# Altium footprint library PcbLib1.PcbLib: 26 footprints (part 1 of 2)
Each footprint in its own frame and in the unit in brackets; x right, y up, seen from the top. Pads: shape width x height; smd on the part's side, far side on the other; paste and mask are expansions set on the pad; w line width, h text height; cw(c..) or ccw(c..) is an arc to the next point about the centre after c.
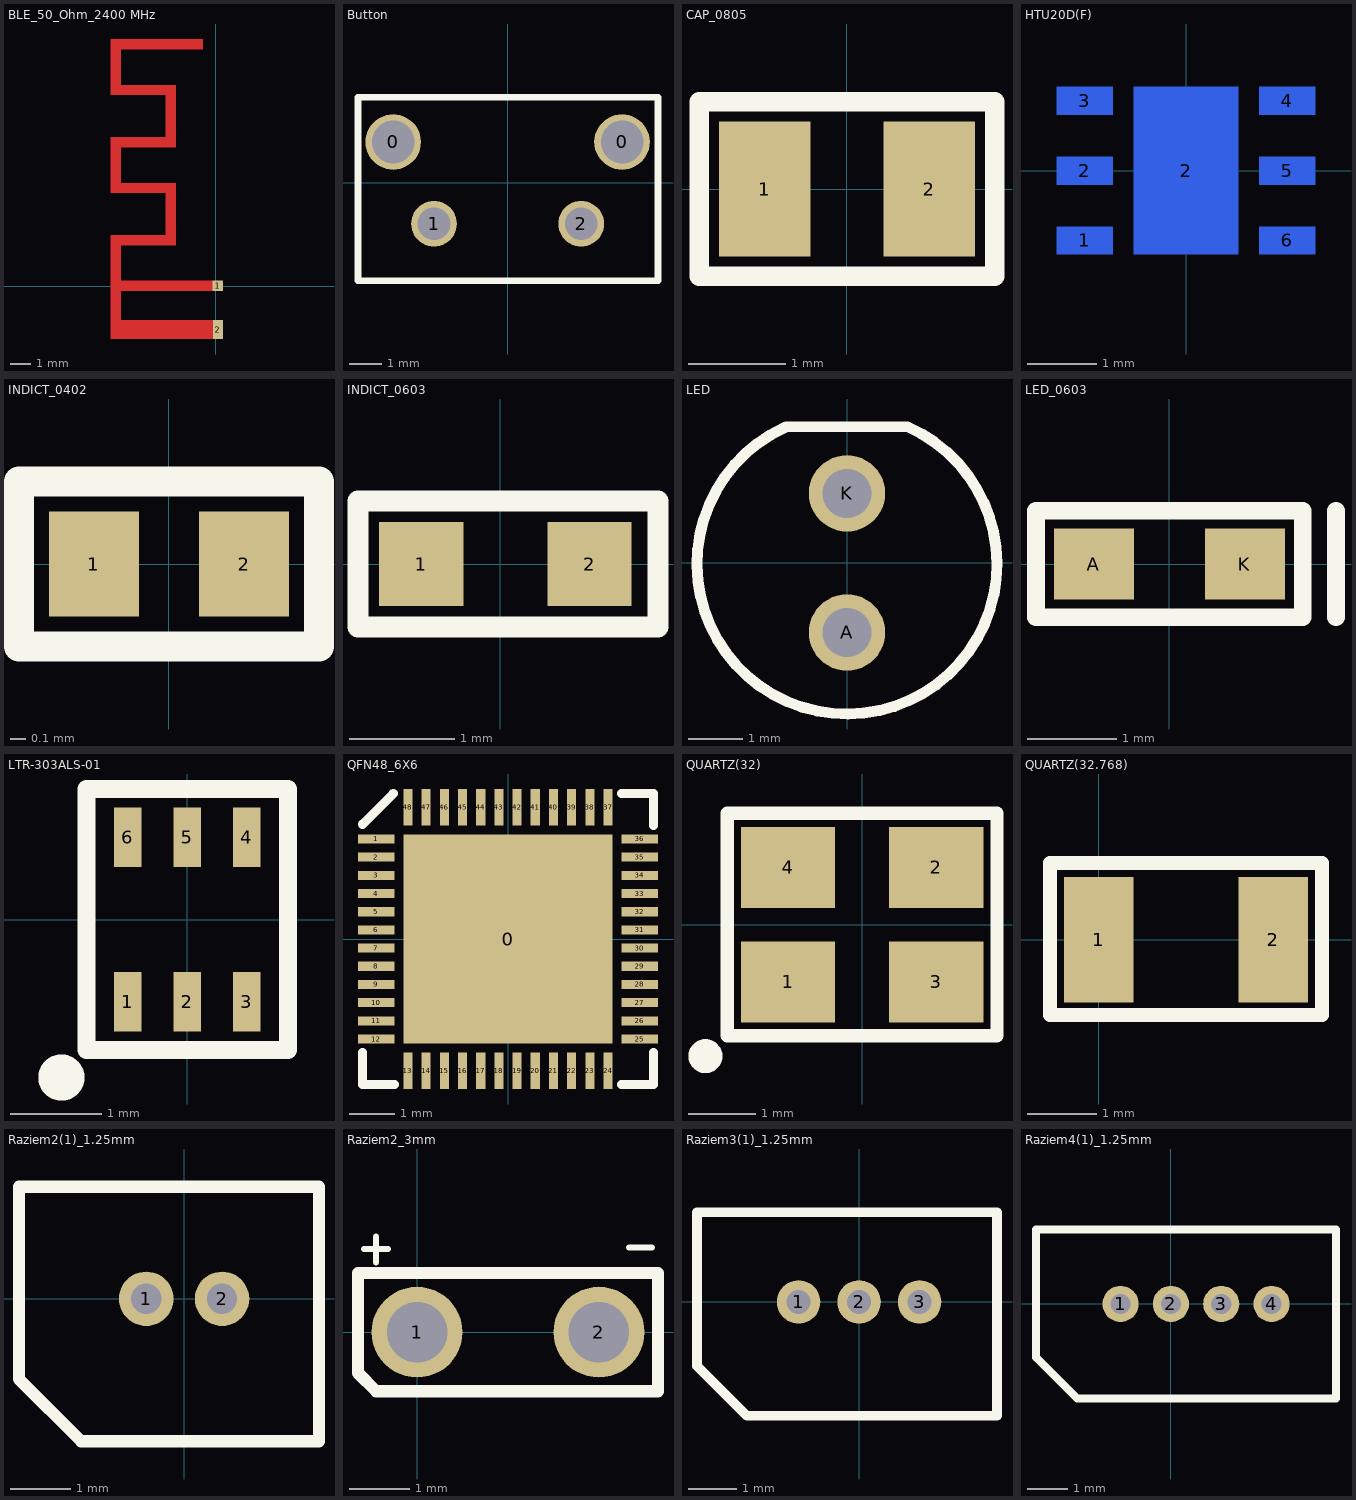
[diagram p0: the footprints below, top view; thin cyan lines are the x and y axes]

## BLE_50_Ohm_2400 MHz [mm]
height 5
pads (2):
  rect 0.5x0.5 smd: 1(0.094,0.028)
  rect 0.5x0.9 smd: 2(0.096,-2.072)
Top Layer:
  rectangle: -4.686,6.678 -1.916,7.178
  rectangle: -2.416,7.145 -1.916,9.303
  rectangle: -2.416,2.162 -1.916,4.539
  rectangle: -5.056,4.478 -4.556,7.178
  rectangle: -5.056,9.178 -4.556,11.878
  rectangle: -5.056,-2.522 -4.556,2.478
  rectangle: -4.877,11.378 -0.616,11.878
  rectangle: -4.634,9.178 -1.916,9.678
  rectangle: -4.662,4.478 -1.916,4.978
  rectangle: -5.056,1.978 -1.916,2.478
  rectangle: -4.756,-0.222 -0.152,0.278
  rectangle: -5.056,-2.522 -0.148,-1.622

## Button [mm]
height 0.55
pads (4):
  round 1.7 hole 1.3: 0(-3.5,1.25) 0(3.5,1.25)
  round 1.4 hole 1: 1(-2.25,-1.25) 2(2.25,-1.25)
Top Overlay:
  lines w0.2: -4.575,-3 -4.575,2.625 4.6,2.625 4.6,-3 -3.8,-3 -4.575,-3
3D body: height 8.1, standoff 1, extent -3.75,-2.875 3.75,2.54

## CAP_0805 [mm]
height 0.55
pads (2):
  rect 0.95x1.4 smd: 1(-0.85,0) 2(0.85,0)
Top Overlay:
  lines w0.2: -1.525,-0.9 -1.525,0.9 1.525,0.9 1.525,-0.9 -1.525,-0.9
3D body "CAPC2012.STEP": height 0.9, standoff 0, extent -1,-0.6 1,0.6

## HTU20D(F) [mm]
height 0.55
pads (7):
  rect 0.8x0.4 smd far side: 1(-1.45,-1) 2(-1.45,0) 3(-1.45,1) 4(1.45,1) 5(1.45,0) 6(1.45,-1)
  rect 1.5x2.4 smd far side: 2(0,0)
Bottom Overlay:
  circle w0.254: c-1.85,-1.8 r0.125
  lines w0.2: -2.15,-1.375 -2.15,1.4 ; 2.15,-1.375 2.15,1.4

## INDICT_0402 [mm]
height 0.55
pads (2):
  rect 0.6x0.7 smd: 1(-0.5,0) 2(0.5,0)
Top Overlay:
  lines w0.2: -1,-0.55 1,-0.55 1,0.55 -1,0.55 -1,-0.55
3D body: height 0.5, standoff 0, extent -0.5,-0.25 0.5,0.25

## INDICT_0603 [mm]
height 0.55
pads (2):
  rect 0.8x0.8 smd: 1(-0.75,0) 2(0.85,0)
Top Overlay:
  lines w0.2: -1.35,-0.6 1.5,-0.6 1.5,0.6 -1.35,0.6 -1.35,-0.6
3D body: height 0.6, standoff 0, extent -0.7,-0.35 0.775,0.325

## LED [mm]
pads (2):
  round 1.4 hole 0.9: A(0,-1.275) K(0,1.275)
Top Overlay:
  lines w0.2: -1.143,2.482 ccw(c0,-0.019) 1.11,2.497 -1.118,2.497
3D body "svetodiode.step": height 13.1, standoff -2.8, extent -2.9,-2.863 2.9,2.525

## LED_0603 [mm]
height 0.55
pads (2):
  rect 0.9x0.8 smd: A(-0.85,0) K(0.85,0)
Top Overlay:
  lines w0.2: 1.875,-0.6 1.875,0.6 ; -1.5,-0.6 -1.5,0.6 1.5,0.6 1.5,-0.6 -1.5,-0.6
3D body: height 0.4, standoff 0, extent -0.8,-0.412 0.8,0.413

## LTR-303ALS-01 [mm]
height 0.55
pads (6):
  rect 0.3x0.65 smd: 1(-0.65,-0.9) 2(0,-0.9) 3(0.65,-0.9) 4(0.65,0.9) 5(0,0.9) 6(-0.65,0.9)
Top Overlay:
  circle w0.254: c-1.375,-1.725 r0.125
  lines w0.2: -1.1,-1.425 -1.1,-1.25 -1.1,1.425 1.1,1.425 1.1,-1.425 -1.1,-1.425
3D body "LTR-329ALS-01.stp": height 0.7, standoff -0.02, extent -1,-1 1,1

## QFN48_6X6 [mm]
pads (49):
  rect 4.6x4.6 smd: 0(0,0)
  rect 0.8x0.2 smd: 1(-2.9,2.2) 2(-2.9,1.8) 3(-2.9,1.4) 4(-2.9,1) 5(-2.9,0.6) 6(-2.9,0.2) 7(-2.9,-0.2) 8(-2.9,-0.6) 9(-2.9,-1) 10(-2.9,-1.4) 11(-2.9,-1.8) 12(-2.9,-2.2) 25(2.9,-2.2) 27(2.9,-1.4) 28(2.9,-1) 29(2.9,-0.6) 30(2.9,-0.2) 31(2.9,0.2) 32(2.9,0.6) 33(2.9,1) 34(2.9,1.4) 35(2.9,1.8) 36(2.9,2.2)
  rect 0.2x0.8 smd: 13(-2.2,-2.9) 14(-1.8,-2.9) 15(-1.4,-2.9) 16(-1,-2.9) 17(-0.6,-2.9) 18(-0.2,-2.9) 19(0.2,-2.9) 20(0.6,-2.9) 21(1,-2.9) 22(1.4,-2.9) 23(1.8,-2.9) 24(2.2,-2.9) 37(2.2,2.9) 38(1.8,2.9) 39(1.4,2.9) 40(1,2.9) 41(0.6,2.9) 42(0.2,2.9) 43(-0.2,2.9) 44(-0.6,2.9) 45(-1,2.9) 46(-1.4,2.9) 47(-1.8,2.9) 48(-2.2,2.9)
  rect 0.8x0.2 smd paste+0: 26(2.9,-1.8)
Top Overlay:
  lines w0.2: -3.2,-2.5 -3.2,-3.2 -2.5,-3.2 ; -3.2,2.525 -2.525,3.2 ; 2.5,-3.2 3.2,-3.2 3.2,-2.5 ; 2.5,3.2 3.2,3.2 3.2,2.5
3D body "nRF52832-QFAA-R.stp": height 0.9, standoff 0, extent -3.05,-3.05 3.05,3.05

## QUARTZ(32) [mm]
height 0.55
pads (4):
  rect 1.4x1.2 smd: 1(-1.1,-0.85) 2(1.1,0.85) 3(1.1,-0.85) 4(-1.1,0.85)
Top Overlay:
  circle w0.254: c-2.325,-1.95 r0.125
  lines w0.2: -2,-1.65 2,-1.65 2,1.65 -2,1.65 -2,-1.65
3D body: height 0.8, standoff 0, extent -1.675,-1.337 1.675,1.338

## QUARTZ(32.768) [mm]
height 0.55
pads (2):
  rect 1x1.8 smd: 1(0,0) 2(2.5,0)
Top Overlay:
  lines w0.2: -0.7,-1.075 -0.7,1.1 3.2,1.1 3.2,-1.075 -0.7,-1.075
3D body: height 1, standoff 0, extent -0.4,-0.85 2.925,0.825

## Raziem2(1)_1.25mm [mm]
height 0.55
pads (2):
  round 0.9 hole 0.5: 1(-0.625,0) 2(0.625,0)
Top Overlay:
  lines w0.2: -2.725,-1.325 -1.7,-2.35 2.225,-2.35 2.225,1.85 -2.725,1.85 -2.725,-1.325
3D body: height 4.7, standoff 0.1, extent -2.125,-1.75 2.125,1.75

## Raziem2_3mm [mm]
height 0.55
pads (2):
  round 1.5 hole 1: 1(0,0) 2(3,0)
Top Overlay:
  lines w0.1: -0.875,1.375 -0.483,1.375 -0.483,1.374 ; -0.675,1.15 -0.675,1.575 ; 3.5,1.4 3.875,1.4
  lines w0.2: -0.975,-0.675 -0.975,0.975 3.975,0.975 3.975,-0.975 -0.675,-0.975 -0.975,-0.675

## Raziem3(1)_1.25mm [mm]
height 0.55
pads (3):
  round 0.9 hole 0.5: 1(-1.25,0) 2(0,0) 3(1.25,0)
Top Overlay:
  lines w0.2: -3.35,-1.325 -3.35,1.85 2.85,1.85 2.85,-2.35 -2.325,-2.35 -3.35,-1.325
3D body: height 4.7, standoff 0.1, extent -2.75,-1.75 2.75,1.75

## Raziem4(1)_1.25mm [mm]
height 0.55
pads (4):
  round 0.9 hole 0.5: 1(-1.25,0) 2(0,0) 3(1.25,0) 4(2.5,0)
Top Overlay:
  lines w0.2: -3.35,-1.325 -3.35,1.85 4.1,1.85 4.1,-2.35 -2.325,-2.35 -3.35,-1.325
3D body: height 4.7, standoff 0.1, extent -2.75,-1.75 4,1.75